# EAGLE library part 10240-6212PC (library 3M_By_element14_Batch_1)
CONN MDR RECPT 40POS VERT T/H
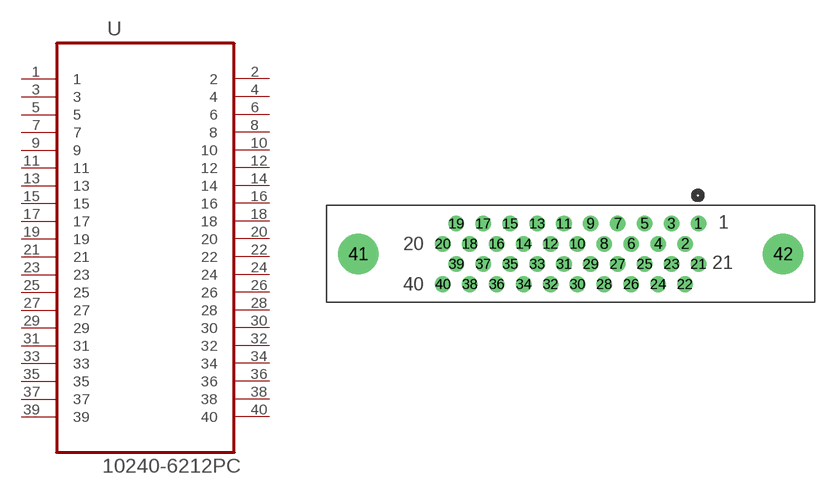
[diagram p8: symbol with the pads of 3M_10240-6212PC; footprint 3M_10240-6212PC]

Designator prefix U

## 10240-6212PC (MPN: 10240-6212PC; OC_FARNELL: -; OC_NEWARK: 93K6335; PACKAGE: MDR RECPT 40POS VERT T/H; SUPPLIER: 3M)  [3M_10240-6212PC]
1  1  pas
2  2  pas
3  3  pas
4  4  pas
5  5  pas
6  6  pas
7  7  pas
8  8  pas
9  9  pas
10  10  pas
11  11  pas
12  12  pas
13  13  pas
14  14  pas
15  15  pas
16  16  pas
17  17  pas
18  18  pas
19  19  pas
20  20  pas
21  21  pas
22  22  pas
23  23  pas
24  24  pas
25  25  pas
26  26  pas
27  27  pas
28  28  pas
29  29  pas
30  30  pas
31  31  pas
32  32  pas
33  33  pas
34  34  pas
35  35  pas
36  36  pas
37  37  pas
38  38  pas
39  39  pas
40  40  pas

## Footprint 3M_10240-6212PC (pad centres in mm)
drill 0.965: 1 24.13,5.715; 2 22.86,3.81; 3 21.59,5.715; 4 20.32,3.81; 5 19.05,5.715; 6 17.78,3.81; 7 16.51,5.715; 8 15.24,3.81; 9 13.97,5.715; 10 12.7,3.81; 11 11.43,5.715; 12 10.16,3.81; 13 8.89,5.715; 14 7.62,3.81; 15 6.35,5.715; 16 5.08,3.81; 17 3.81,5.715; 18 2.54,3.81; 19 1.27,5.715; 20 0,3.81; 21 24.13,1.905; 22 22.86,0; 23 21.59,1.905; 24 20.32,0; 25 19.05,1.905; 26 17.78,0; 27 16.51,1.905; 28 15.24,0; 29 13.97,1.905; 30 12.7,0; 31 11.43,1.905; 32 10.16,0; 33 8.89,1.905; 34 7.62,0; 35 6.35,1.905; 36 5.08,0; 37 3.81,1.905; 38 2.54,0; 39 1.27,1.905; 40 0,0
drill 2.794: 41 -8.001,2.845; 42 32.131,2.845